# Altium schematic symbol library SI2337DS-T1-BE3.SchLib: 1 symbol
Pins are listed as number, name and electrical type; pins without a type are passive.

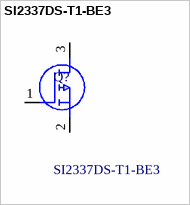
[diagram p0: symbol SI2337DS-T1-BE3]

## SI2337DS-T1-BE3
designator Q?
MOSFET P-CHANNEL 80-V (D-S); Manufacturer_Name: Vishay; Geometry.Height: 1.12mm; Mouser Part Number: 78-SI2337DS-T1-BE3; Mouser Price/Stock: https://www.mouser.co.uk/ProductDetail/Vishay-Siliconix/SI2337DS-T1-BE3?qs=CiayqK2gdcKwfz5JxPKQMQ%3D%3D; Manufacturer_Part_Number: SI2337DS-T1-BE3; Datasheet Link: https://www.vishay.com/docs/73533/si2337ds.pdf
footprint SOT95P237X112-3N
pins: 1 G, 2 S, 3 D